# EAGLE library part MAX60* (library bardiir)
MAX603/MAX604 5V/3.3V or Adjustable, Low-Dropout, Low IQ, 500mA Linear Regulators General Description The MAX603/MAX604 low-dropout, low quiescent cur- rent, linear regulators supply 5V, 3.3V, or an adjustable output for currents up to 500mA. They are available in a 1.8W SO package. Typical dropouts are 320mV at 5V and 500mA, or 240mV at 3.3V and 200mA. Quiescent currents are 15μA typ and 35μA max. Shutdown turns off all circuitry and puts the regulator in a 2μA off mode. A unique protection scheme limits reverse currents when the input voltage falls below the output. Other fea- tures include foldback current limiting and thermal overload protection. The output is preset at 3.3V for the MAX604 and 5V for the MAX603. In addition, both devices employ Dual ModeTM operation, allowing user-adjustable outputs from 1.25V to 11V using external resistors. The input voltage supply range is 2.7V to 11.5V. The MAX603/MAX604 feature a 500mA P-channel MOSFET pass transistor. This transistor allows the devices to draw less than 35μA over temperature, inde- pendent of the output current. The supply current remains low because the P-channel MOSFET pass tran- sistor draws no base currents (unlike the PNP transis- tors of conventional bipolar linear regulators). Also, when the input-to-output voltage differential becomes small, the internal P-channel MOSFET does not suffer from excessive base current losses that occur with sat- urated PNP transistors. Applications 5V and 3.3V Regulators 1.25V to 11V Adjustable Regulators Battery-Powered Devices Pagers and Cellular Phones Portable Instruments Solar-Powered Instruments Features 500mA Output Current, with Foldback Current Limiting High-Power (1.8W) 8-Pin SO Package Dual ModeTM Operation: Fixed or Adjustable Output from 1.25V to 11V Large Input Range (2.7V to 11.5V) Internal 500mA P-Channel Pass Transistor 15μA Typical Quiescent Current 2μA (Max) Shutdown Mode Thermal Overload Protection Reverse-Current Protection
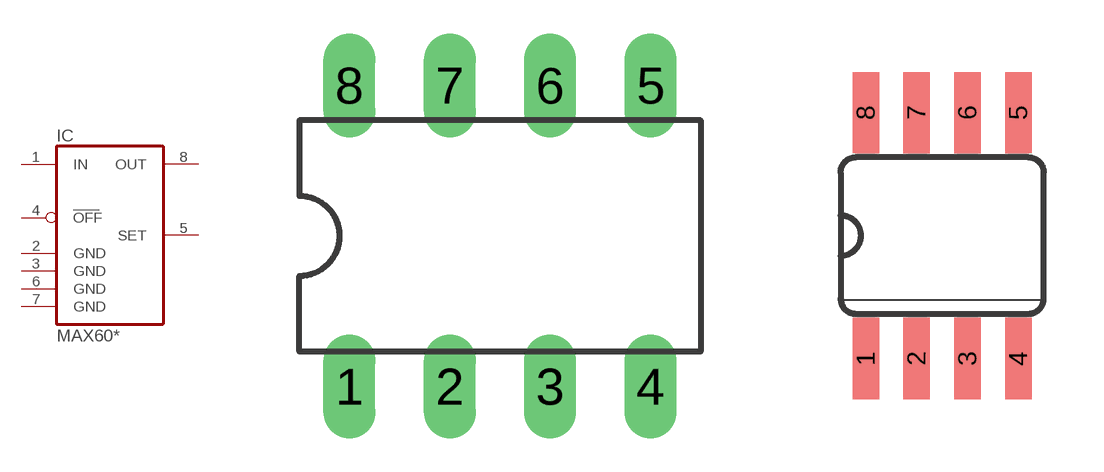
[diagram p1: symbol with the pads of DIP08; footprints DIP08, SO08]

Designator prefix IC

## MAX603CPA (IOUT: 500mA; VOUT: 5V), MAX604CPA (IOUT: 300mA; VOUT: 3.3V)  [DIP08]
1  IN  in
2  GND  nc
3  GND  nc
4  OFF  in
5  SET  pwr
6  GND  nc
7  GND  nc
8  OUT  pwr

## MAX603CSA (IOUT: 500mA; VOUT: 5V), MAX604CSA (IOUT: 300mA; VOUT: 3.3V)  [SO08]
Pads as for DIP08

## Footprint DIP08 (pad centres in mm)
drill 0.813 long: 1 -3.81,-3.81; 2 -1.27,-3.81; 3 1.27,-3.81; 4 3.81,-3.81; 5 3.81,3.81; 6 1.27,3.81; 7 -1.27,3.81; 8 -3.81,3.81

## Footprint SO08 (pad centres in mm)
smd 0.66 x 2.032: 1 -1.905,-3.073; 2 -0.635,-3.073; 3 0.635,-3.073; 4 1.905,-3.073; 5 1.905,3.073; 6 0.635,3.073; 7 -0.635,3.073; 8 -1.905,3.073